# Altium schematic symbol library TVS.SchLib: 1 symbol
Pins are listed as number, name and electrical type; pins without a type are passive.

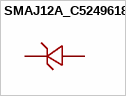
[diagram p0: symbol SMAJ12A_C5249618]

## SMAJ12A_C5249618
designator U?, comment SMAJ12A  (value not drawn)
Manufacturer: ElecSuper(静芯微); Symbol: SMAJ12A_C5249618; Add into BOM: yes; polarity: 单向; Reverse Stand-Off Voltage (Vrwm): 12V; Maximum Clamping Voltage: 19.9V; Peak Pulse Current (Ipp): 20.1A; Peak Pulse Power Dissipation (Ppp): 400W; Breakdown Voltage: 13.3V; Reverse Leakage Current (Ir): 1uA; Number of Lines: 单路; Device: SMAJ12A_C5249618; LCSC Part Name: TVS 12V截止 20.1A峰值脉冲; Supplier Part: C5249618; Manufacturer Part: SMAJ12A; Supplier Footprint: DO-214AC(SMA); JLCPCB Part Class: Extended Part; Datasheet: https://atta.szlcsc.com/upload/public/pdf/source/20221109/3FB3E4ADBFD206FE0476FF64AE4C2FE6.pdf; Supplier: LCSC; Convert to PCB: yes; Operating Temperature: -65℃~+150℃; Type: TVS
footprint SMA_L4.3-W2.6-LS5.2-RD
pins: 1 C, 2 A